# Altium schematic symbol library RES 20m 1W.Schlib: 1 symbol
Pins are listed as number, name and electrical type; pins without a type are passive.

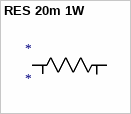
[diagram p0: symbol RES 20m 1W]

## RES 20m 1W
designator *
RES SMD 0.02 OHM 1% 1W 1206
footprint 1206 - Sense (4-Wire Sense Footprint)
pins: 1 R1, 2 R2, 3, 4